# Altium footprint library SWITCH_DIP.PCBLIB: 26 footprints (part 1 of 2)
Each footprint in its own frame and in the unit in brackets; x right, y up, seen from the top. Pads: shape width x height; smd on the part's side, far side on the other; paste and mask are expansions set on the pad; w line width, h text height; cw(c..) or ccw(c..) is an arc to the next point about the centre after c.
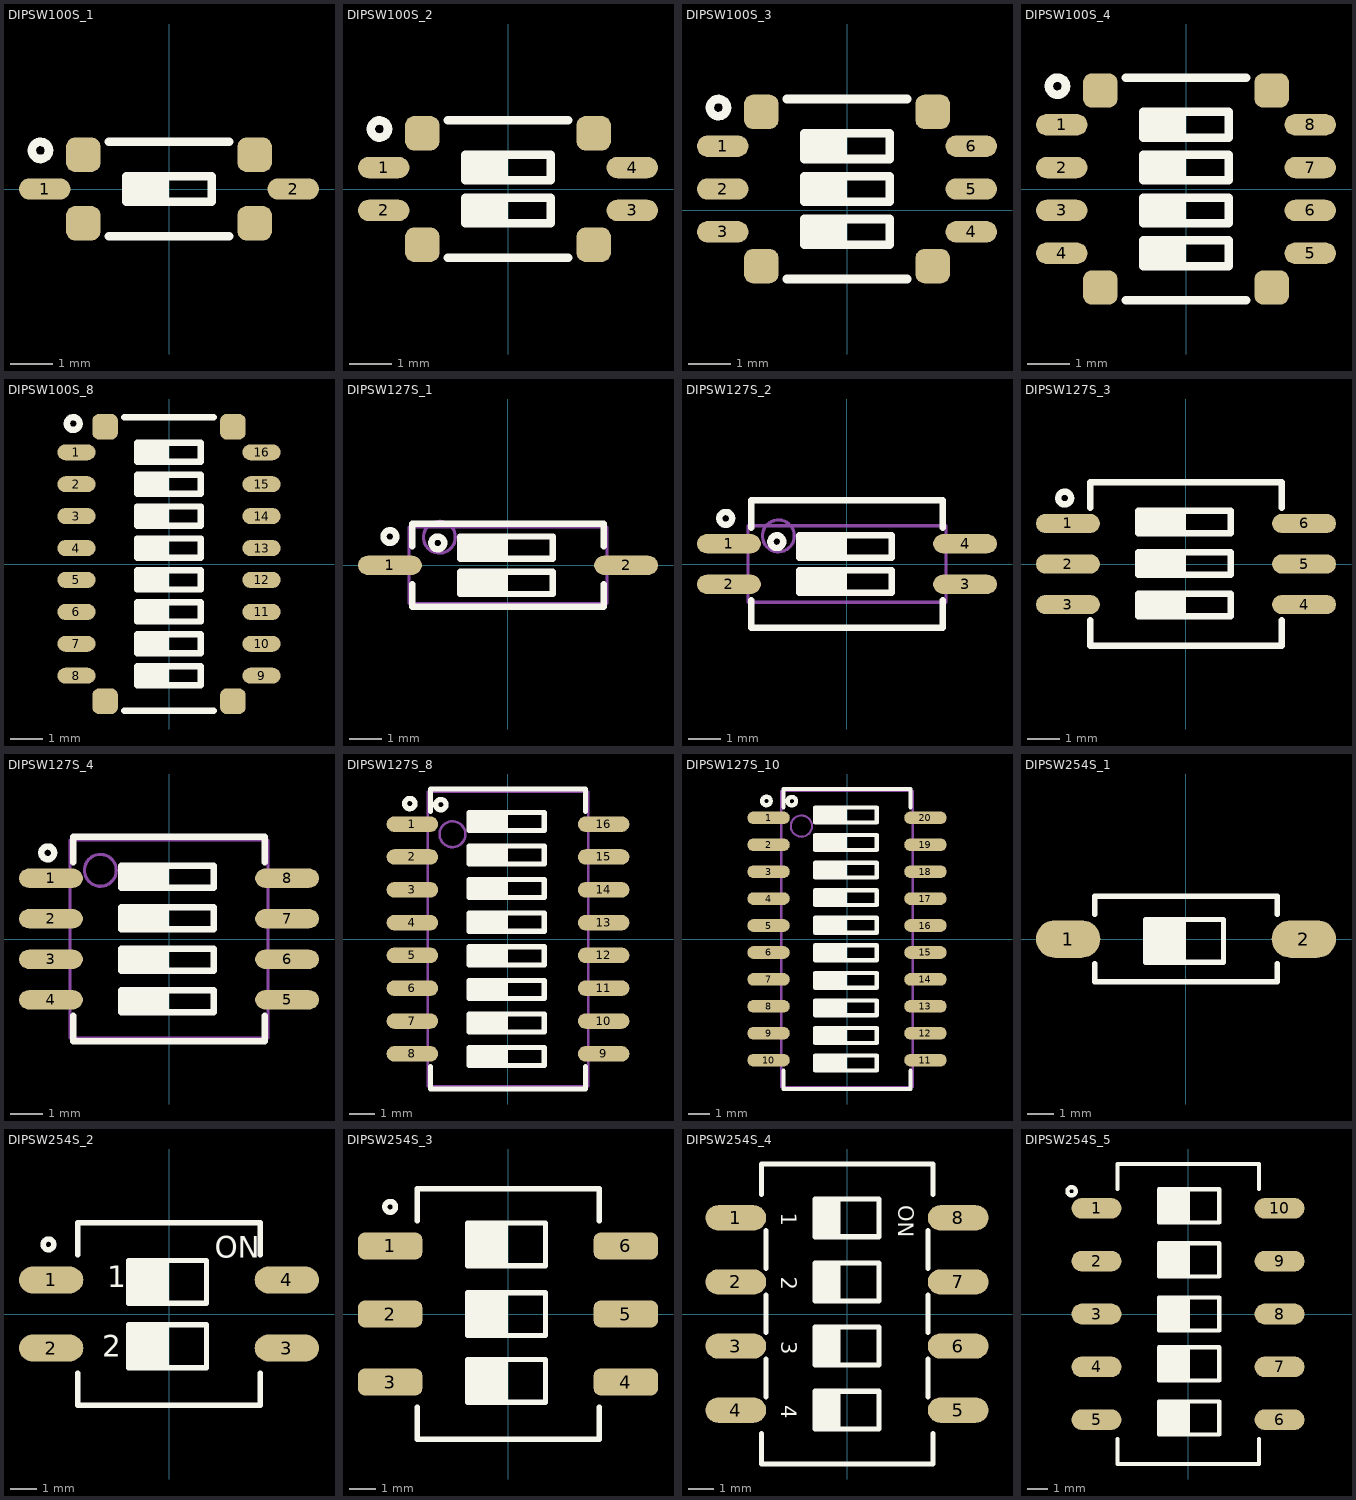
[diagram p0: the footprints below, top view; thin cyan lines are the x and y axes]

## DIPSW100S_1 [mm] "SWITCH DIP 4POS, SMD, 1mm, CVS-01, 4.7X5x1.5mm nidec copal"
height 1.5
pads (6):
  oval 1.2x0.5 smd: 1(-2.9,0) 2(2.9,0)
  rrect50% 0.8x0.8 smd mask+0.075: ""(-2,-0.8) ""(-2,0.8) ""(2,-0.8) ""(2,0.8)
TopOverlay:
  circle w0.2: c-3,0.9 r0.2
  rectangle: -1,-0.3 0,0.3
  lines w0.2: -1.4,-1.1 1.4,-1.1 ; -1.4,1.1 1.4,1.1 ; -1,-0.3 1,-0.3 1,0.3 -1,0.3 -1,-0.3
3D body "CVS-01TB.stp": height 1.47, standoff 0, extent -3.05,-1 3.05,1

## DIPSW100S_2 [mm] "SWITCH DIP 4POS, SMD, 1mm, CVS-02, 4.7X5x1.5mm nidec copal"
height 1.5
pads (8):
  oval 1.2x0.5 smd: 1(-2.9,0.5) 2(-2.9,-0.5) 3(2.9,-0.5) 4(2.9,0.5)
  rrect50% 0.8x0.8 smd mask+0.075: ""(-2,-1.3) ""(-2,1.3) ""(2,-1.3) ""(2,1.3)
TopOverlay:
  circle w0.2: c-3,1.4 r0.2
  rectangle: -1,-0.8 0,-0.2
  rectangle: -1,0.2 0,0.8
  lines w0.2: -1.4,-1.6 1.4,-1.6 ; -1.4,1.6 1.4,1.6 ; -1,-0.8 -1,-0.2 1,-0.2 1,-0.8 -1,-0.8 ; -1,0.2 -1,0.8 1,0.8 1,0.2 -1,0.2
3D body "CVS-02TB.stp": height 1.47, standoff 0, extent -3.05,-1.5 3.05,1.5

## DIPSW100S_3 [mm] "SWITCH DIP 4POS, SMD, 1mm, CVS-03, 4.7X5x1.5mm nidec copal"
height 1.5
pads (10):
  oval 1.2x0.5 smd: 1(-2.9,1.5) 2(-2.9,0.5) 3(-2.9,-0.5) 4(2.9,-0.5) 5(2.9,0.5) 6(2.9,1.5)
  rrect50% 0.8x0.8 smd mask+0.075: ""(-2,-1.3) ""(-2,2.3) ""(2,-1.3) ""(2,2.3)
TopOverlay:
  circle w0.2: c-3,2.4 r0.2
  rectangle: -1,-0.8 0,-0.2
  rectangle: -1,0.2 0,0.8
  rectangle: -1,1.2 0,1.8
  lines w0.2: -1.4,-1.6 1.4,-1.6 ; -1.4,2.6 1.4,2.6 ; -1,-0.8 -1,-0.2 1,-0.2 1,-0.8 -1,-0.8 ; -1,0.2 -1,0.8 1,0.8 1,0.2 -1,0.2 ; -1,1.2 -1,1.8 1,1.8 1,1.2 -1,1.2
3D body "CVS-03TB.stp": height 1.47, standoff 0, extent -3.05,-1.5 3.05,2.5

## DIPSW100S_4 [mm] "SWITCH DIP 4POS, SMD, 1mm, CVS-04, 4.7X5x1.5mm nidec copal"
height 1.5
pads (12):
  oval 1.2x0.5 smd: 1(-2.9,1.5) 2(-2.9,0.5) 3(-2.9,-0.5) 4(-2.9,-1.5) 5(2.9,-1.5) 6(2.9,-0.5) 7(2.9,0.5) 8(2.9,1.5)
  rrect50% 0.8x0.8 smd mask+0.075: ""(-2,-2.3) ""(-2,2.3) ""(2,-2.3) ""(2,2.3)
TopOverlay:
  circle w0.2: c-3,2.4 r0.2
  rectangle: -1,1.2 0,1.8
  rectangle: -1,0.2 0,0.8
  rectangle: -1,-0.8 0,-0.2
  rectangle: -1,-1.8 0,-1.2
  lines w0.2: -1.4,-2.6 1.4,-2.6 ; -1.4,2.6 1.4,2.6 ; -1,-1.8 1,-1.8 1,-1.2 -1,-1.2 -1,-1.8 ; -1,-0.8 1,-0.8 1,-0.2 -1,-0.2 -1,-0.8 ; -1,0.2 1,0.2 1,0.8 -1,0.8 -1,0.2 ; -1,1.2 1,1.2 1,1.8 -1,1.8 -1,1.2
3D body "CVS-04TB.stp": height 1.47, standoff 0, extent -3.05,-2.5 3.05,2.5

## DIPSW100S_8 [mm] "SWITCH DIP 4POS, SMD, 1mm, CVS-08, 4.7X5x1.5mm nidec copal"
height 1.5
pads (20):
  oval 1.2x0.5 smd: 1(-2.9,3.5) 2(-2.9,2.5) 3(-2.9,1.5) 4(-2.9,0.5) 5(-2.9,-0.5) 6(-2.9,-1.5) 7(-2.9,-2.5) 8(-2.9,-3.5) 9(2.9,-3.5) 10(2.9,-2.5) 11(2.9,-1.5) 12(2.9,-0.5) 13(2.9,0.5) 14(2.9,1.5) 15(2.9,2.5) 16(2.9,3.5)
  rrect50% 0.8x0.8 smd mask+0.075: ""(-2,-4.3) ""(-2,4.3) ""(2,-4.3) ""(2,4.3)
TopOverlay:
  circle w0.2: c-3,4.4 r0.2
  rectangle: -1,-3.8 0,-3.2
  rectangle: -1,-2.8 0,-2.2
  rectangle: -1,-1.8 0,-1.2
  rectangle: -1,-0.8 0,-0.2
  rectangle: -1,3.2 0,3.8
  rectangle: -1,2.2 0,2.8
  rectangle: -1,1.2 0,1.8
  rectangle: -1,0.2 0,0.8
  lines w0.2: -1.4,-4.6 1.4,-4.6 ; -1.4,4.6 1.4,4.6 ; -1,-3.8 -1,-3.2 1,-3.2 1,-3.8 -1,-3.8 ; -1,-2.8 1,-2.8 1,-2.2 -1,-2.2 -1,-2.8 ; -1,-1.8 1,-1.8 1,-1.2 -1,-1.2 -1,-1.8 ; -1,-0.8 1,-0.8 1,-0.2 -1,-0.2 -1,-0.8 ; -1,0.2 1,0.2 1,0.8 -1,0.8 -1,0.2 ; -1,1.2 1,1.2 1,1.8 -1,1.8 -1,1.2 ; -1,2.2 1,2.2 1,2.8 -1,2.8 -1,2.2 ; -1,3.2 1,3.2 1,3.8 -1,3.8 -1,3.2
3D body "CVS-08TB.stp": height 1.47, standoff 0, extent -3.05,-4.5 3.05,4.5

## DIPSW127S_1 [mm] "SWITCH DIP 1POS, SMD, 1.27mm, 6.1X2.4mm www.ck-components.com, TDA series"
height 2.3
pads (2):
  oval 2x0.6 smd: 1(-3.7,0) 2(3.7,0)
TopOverlay:
  circle w0.2: c-3.7,0.9 r0.2
  circle w0.2: c-2.2,0.7 r0.2
  rectangle: -1.5,-0.8 0,-0.2
  rectangle: -1.5,0.2 0,0.8
  lines w0.2: -3,-0.6 -3,-1.3 3,-1.3 3,-0.6 ; -3,0.6 -3,1.3 3,1.3 3,0.6 ; -1.5,-0.9 -1.5,-0.2 1.4,-0.2 1.4,-0.9 -1.5,-0.9 ; -1.5,0.2 1.4,0.2 1.4,0.9 -1.5,0.9 -1.5,0.2
Mechanical13:
  circle w0.1: c-2.15,0.88 r0.5
  lines w0.1: -3.1,-1.2 3.1,-1.2 3.1,1.2 -3.1,1.2 -3.1,-1.2
3D body "TDA01H0SB1R.stp": height 2.3, standoff 0, extent -4.06,-1.2 4.06,1.2

## DIPSW127S_2 [mm] "SWITCH DIP 2POS, SMD, 1.27mm, 6.1X2.4mm www.ck-components.com, TDA series"
height 2.3
pads (4):
  oval 2x0.6 smd: 1(-3.7,0.635) 2(-3.7,-0.635) 3(3.7,-0.635) 4(3.7,0.635)
TopOverlay:
  circle w0.2: c-2.2,0.7 r0.2
  circle w0.2: c-3.8,1.43 r0.2
  rectangle: -1.5,0.2 0,0.8
  rectangle: -1.5,-0.8 0,-0.2
  lines w0.2: -3,-1.13 -3,-2 3,-2 3,-1.13 ; -3,1.13 -3,2 3,2 3,1.13 ; -1.5,-0.9 1.4,-0.9 1.4,-0.2 -1.5,-0.2 -1.5,-0.9 ; -1.5,0.2 -1.5,0.9 1.4,0.9 1.4,0.2 -1.5,0.2
Mechanical13:
  circle w0.1: c-2.15,0.88 r0.5
  lines w0.1: -3.1,-1.2 -3.1,1.2 3.1,1.2 3.1,-1.2 -3.1,-1.2
3D body "218-2polesLP.STP": height 2.57, standoff -0.05, extent -4.22,-1.855 4.22,1.855

## DIPSW127S_3 [mm] "SWITCH DIP 3POS, SMD, 1.27mm, 6.1width"
height 2.3
pads (6):
  oval 2x0.6 smd: 1(-3.7,1.27) 2(-3.7,0) 3(-3.7,-1.27) 4(3.7,-1.27) 5(3.7,0) 6(3.7,1.27)
TopOverlay:
  circle w0.2: c-3.8,2.065 r0.2
  rectangle: -1.5,-1.535 0,-0.935
  rectangle: -1.5,-0.235 0,0.365
  rectangle: -1.5,1.065 0,1.665
  lines w0.2: -3,-1.765 -3,-2.565 3,-2.565 3,-1.765 ; -3,1.765 -3,2.565 3,2.565 3,1.765 ; -1.5,-1.635 -1.5,-0.935 1.4,-0.935 1.4,-1.635 -1.5,-1.635 ; -1.5,-0.335 -1.5,0.365 1.4,0.365 1.4,-0.335 -1.5,-0.335 ; -1.5,0.965 -1.5,1.665 1.4,1.665 1.4,0.965 -1.5,0.965
3D body "DSHP03TS-S.step": height 2.57, standoff -0.05, extent -4.22,-2.49 4.22,2.49

## DIPSW127S_4 [mm] "SWITCH DIP 4POS, SMD, 1.27mm, 6.1X6.2mm www.ck-components.com, TDA series"
height 2.3
pads (8):
  oval 2x0.6 smd: 1(-3.7,1.905) 2(-3.7,0.635) 3(-3.7,-0.635) 4(-3.7,-1.905) 5(3.7,-1.905) 6(3.7,-0.635) 7(3.7,0.635) 8(3.7,1.905)
TopOverlay:
  circle w0.2: c-3.8,2.7 r0.2
  rectangle: -1.5,1.7 0,2.3
  rectangle: -1.5,0.4 0,1
  rectangle: -1.5,-0.9 0,-0.3
  rectangle: -1.5,-2.2 0,-1.6
  lines w0.2: -3,-2.4 -3,-3.2 3,-3.2 3,-2.4 ; -3,2.4 -3,3.2 3,3.2 3,2.4 ; -1.5,-2.3 1.4,-2.3 1.4,-1.6 -1.5,-1.6 -1.5,-2.3 ; -1.5,-1 1.4,-1 1.4,-0.3 -1.5,-0.3 -1.5,-1 ; -1.5,0.3 1.4,0.3 1.4,1 -1.5,1 -1.5,0.3 ; -1.5,1.6 1.4,1.6 1.4,2.3 -1.5,2.3 -1.5,1.6
Mechanical13:
  circle w0.1: c-2.15,2.15 r0.5
  lines w0.1: -3.1,-3.1 3.1,-3.1 3.1,3.1 -3.1,3.1 -3.1,-3.1
3D body "218-4polesLP.STP": height 2.57, standoff -0.05, extent -4.22,-3.125 4.22,3.125

## DIPSW127S_8 [mm] "SWITCH DIP 8POS, SMD, 1.27mm, 6.1X11.3mm www.ck-components.com, TDA series"
height 2.3
pads (16):
  oval 2x0.6 smd: 1(-3.7,4.445) 2(-3.7,3.175) 3(-3.7,1.905) 4(-3.7,0.635) 5(-3.7,-0.635) 6(-3.7,-1.905) 7(-3.7,-3.175) 8(-3.7,-4.445) 9(3.7,-4.445) 10(3.7,-3.175) 11(3.7,-1.905) 12(3.7,-0.635) 13(3.7,0.635) 14(3.7,1.905) 15(3.7,3.175) 16(3.7,4.445)
TopOverlay:
  circle w0.2: c-3.8,5.24 r0.2
  circle w0.2: c-2.6,5.2 r0.2
  rectangle: -1.5,-4.8 0,-4.2
  rectangle: -1.5,-3.5 0,-2.9
  rectangle: -1.5,-2.2 0,-1.6
  rectangle: -1.5,-0.9 0,-0.3
  rectangle: -1.5,0.4 0,1
  rectangle: -1.5,1.7 0,2.3
  rectangle: -1.5,3 0,3.6
  rectangle: -1.5,4.3 0,4.9
  lines w0.2: -3,-4.94 -3,-5.805 3,-5.805 3,-4.94 ; -3,4.94 -3,5.805 3,5.805 3,4.94 ; -1.5,-4.9 -1.5,-4.2 1.4,-4.2 1.4,-4.9 -1.5,-4.9 ; -1.5,-3.6 -1.5,-2.9 1.4,-2.9 1.4,-3.6 -1.5,-3.6 ; -1.5,-2.3 -1.5,-1.6 1.4,-1.6 1.4,-2.3 -1.5,-2.3 ; -1.5,-1 -1.5,-0.3 1.4,-0.3 1.4,-1 -1.5,-1 ; -1.5,0.3 -1.5,1 1.4,1 1.4,0.3 -1.5,0.3 ; -1.5,1.6 -1.5,2.3 1.4,2.3 1.4,1.6 -1.5,1.6 ; -1.5,2.9 -1.5,3.6 1.4,3.6 1.4,2.9 -1.5,2.9 ; -1.5,4.2 -1.5,4.9 1.4,4.9 1.4,4.2 -1.5,4.2
Mechanical13:
  circle w0.1: c-2.15,4.055 r0.5
  lines w0.1: -3.1,-5.705 -3.1,5.705 3.1,5.705 3.1,-5.705 -3.1,-5.705
3D body "218-8polesLP.STP": height 2.57, standoff -0.05, extent -4.22,-5.665 4.22,5.665

## DIPSW127S_10 [mm] "SWITCH DIP 10POS, SMD, 1.27mm, 6.1X13.8mm"
height 2.3
pads (20):
  oval 2x0.6 smd: 1(-3.7,5.715) 2(-3.7,4.445) 3(-3.7,3.175) 4(-3.7,1.905) 5(-3.7,0.635) 6(-3.7,-0.635) 7(-3.7,-1.905) 8(-3.7,-3.175) 9(-3.7,-4.445) 10(-3.7,-5.715) 11(3.7,-5.715) 12(3.7,-4.445) 13(3.7,-3.175) 14(3.7,-1.905) 15(3.7,-0.635) 16(3.7,0.635) 17(3.7,1.905) 18(3.7,3.175) 19(3.7,4.445) 20(3.7,5.715)
TopOverlay:
  circle w0.2: c-3.8,6.51 r0.2
  circle w0.2: c-2.6,6.5 r0.2
  rectangle: -1.5,5.6 0,6.2
  rectangle: -1.5,4.3 0,4.9
  rectangle: -1.5,3 0,3.6
  rectangle: -1.5,1.7 0,2.3
  rectangle: -1.5,0.4 0,1
  rectangle: -1.5,-0.9 0,-0.3
  rectangle: -1.5,-2.2 0,-1.6
  rectangle: -1.5,-3.5 0,-2.9
  rectangle: -1.5,-4.8 0,-4.2
  rectangle: -1.5,-6.1 0,-5.5
  lines w0.2: -3,-6.21 -3,-7.075 3,-7.075 3,-6.21 ; -3,6.21 -3,7.075 3,7.075 3,6.21 ; -1.5,-6.2 1.4,-6.2 1.4,-5.5 -1.5,-5.5 -1.5,-6.2 ; -1.5,-4.9 1.4,-4.9 1.4,-4.2 -1.5,-4.2 -1.5,-4.9 ; -1.5,-3.6 1.4,-3.6 1.4,-2.9 -1.5,-2.9 -1.5,-3.6 ; -1.5,-2.3 1.4,-2.3 1.4,-1.6 -1.5,-1.6 -1.5,-2.3 ; -1.5,-1 1.4,-1 1.4,-0.3 -1.5,-0.3 -1.5,-1 ; -1.5,0.3 1.4,0.3 1.4,1 -1.5,1 -1.5,0.3 ; -1.5,1.6 1.4,1.6 1.4,2.3 -1.5,2.3 -1.5,1.6 ; -1.5,2.9 1.4,2.9 1.4,3.6 -1.5,3.6 -1.5,2.9 ; -1.5,4.2 1.4,4.2 1.4,4.9 -1.5,4.9 -1.5,4.2 ; -1.5,5.5 1.4,5.5 1.4,6.2 -1.5,6.2 -1.5,5.5
Mechanical13:
  circle w0.1: c-2.15,5.325 r0.5
  lines w0.1: -3.1,-6.975 3.1,-6.975 3.1,6.975 -3.1,6.975 -3.1,-6.975
3D body "218-10polesLP.STP": height 2.57, standoff -0.05, extent -4.22,-6.935 4.22,6.935

## DIPSW254S_1 [mm] "SWITCH DIP 1POS, THD, 2.54mm"
height 6.5
pads (2):
  oval 2.4x1.4 smd: 1(-4.4,0) 2(4.4,0)
TopOverlay:
  rectangle: -1.5,-0.87 0,0.73
  lines w0.2: -3.4,-0.93 -3.4,-1.6 3.4,-1.6 3.4,-0.93 ; -3.4,0.93 -3.4,1.6 3.4,1.6 3.4,0.93 ; -1.5,-0.87 1.4,-0.87 1.4,0.73 -1.5,0.73 -1.5,-0.87
3D body "418121160801.stp": height 3.35, standoff 0.05, extent -4.95,-1.49 4.95,1.49

## DIPSW254S_2 [mm] "SWITCH DIP 2POS, THD, 2.54mm, SD02"
height 6.5
pads (4):
  oval 2.4x1 smd: 1(-4.4,1.27) 2(-4.4,-1.27) 3(4.4,-1.27) 4(4.4,1.27)
TopOverlay:
  circle w0.2: c-4.5,2.6 r0.2
  rectangle: -1.5,0.4 0,2
  rectangle: -1.5,-2 0,-0.4
  lines w0.2: -3.4,-2.2 -3.4,-3.4 3.4,-3.4 3.4,-2.2 ; -3.4,2.2 -3.4,3.4 3.4,3.4 3.4,2.2 ; -1.5,-2 1.4,-2 1.4,-0.4 -1.5,-0.4 -1.5,-2 ; -1.5,0.4 1.4,0.4 1.4,2 -1.5,2 -1.5,0.4
  text "2" at -2.5,-1.6 h0.8
  text "1" at -2.3,1 h0.8
  text "ON" at 1.7,2.1 h0.8
3D body "User Library-DIP SW 2P.step": height 4.15, standoff 0, extent -4.95,-3.275 4.95,3.275

## DIPSW254S_3 [mm] "SWITCH DIP 3POS, THD, 2.54mm, SD03"
pads (6):
  rrect50% 2.4x1 smd: 1(-4.4,2.54) 2(-4.4,0) 3(-4.4,-2.54) 4(4.4,-2.54) 5(4.4,0) 6(4.4,2.54)
TopOverlay:
  circle w0.2: c-4.4,4 r0.2
  rectangle: -1.5,-3.3 0,-1.7
  rectangle: -1.5,-0.8 0,0.8
  rectangle: -1.5,1.8 0,3.4
  lines w0.2: -3.39,-3.47 -3.39,-4.67 3.41,-4.67 3.41,-3.47 ; -3.39,3.47 -3.39,4.67 3.41,4.67 3.41,3.47 ; -1.5,-3.3 -1.5,-1.7 1.4,-1.7 1.4,-3.3 -1.5,-3.3 ; -1.5,-0.8 -1.5,0.8 1.4,0.8 1.4,-0.8 -1.5,-0.8 ; -1.5,1.8 -1.5,3.4 1.4,3.4 1.4,1.8 -1.5,1.8
3D body "User Library-DIP SW 3P.step": height 4.15, standoff 0, extent -4.95,-4.545 4.95,4.545

## DIPSW254S_4 [mm] "SWITCH DIP 4POS, SMD, 2.54mm, CTS-219-04"
pads (8):
  oval 2.4x1 smd: 1(-4.4,3.81) 2(-4.4,1.27) 3(-4.4,-1.27) 4(-4.4,-3.81) 5(4.4,-3.81) 6(4.4,-1.27) 7(4.4,1.27) 8(4.4,3.81)
TopOverlay:
  region: -1.27,4.56 -1.27,3.06 -0.254,3.06 -0.254,4.56
  region: -1.27,2.02 -1.27,0.52 -0.254,0.52 -0.254,2.02
  region: -1.27,-0.52 -1.27,-2.02 -0.254,-2.02 -0.254,-0.52
  region: -1.27,-3.06 -1.27,-4.56 -0.254,-4.56 -0.254,-3.06
  lines w0.2: -3.39,-4.74 -3.39,-5.94 3.41,-5.94 3.41,-4.74 ; -3.39,4.74 -3.39,5.94 3.41,5.94 3.41,4.74 ; -3.2,-3.28 -3.2,-1.78 ; -3.2,-0.74 -3.2,0.76 ; -3.2,1.8 -3.2,3.3 ; 3.2,-3.28 3.2,-1.78 ; 3.2,-0.74 3.2,0.76 ; 3.2,1.8 3.2,3.3 ; -1.27,-4.56 -1.27,-3.06 1.27,-3.06 1.27,-4.56 -1.27,-4.56 ; -1.27,-2.02 -1.27,-0.52 1.27,-0.52 1.27,-2.02 -1.27,-2.02 ; -1.27,0.52 -1.27,2.02 1.27,2.02 1.27,0.52 -1.27,0.52 ; -1.27,3.06 -1.27,4.56 1.27,4.56 1.27,3.06 -1.27,3.06
  text "ON" at 2.021,4.31 h0.61
  text "1" at -2.596,4.01 h0.61
  text "2" at -2.596,1.47 h0.61
  text "3" at -2.596,-1.07 h0.61
  text "4" at -2.596,-3.61 h0.61
3D body "User Library-DIP SW 4P.step": height 4.15, standoff 0, extent -4.95,-5.815 4.95,5.815

## DIPSW254S_5 [mm] "SWITCH DIP 5POS, THD, 2.54mm,"
pads (10):
  oval 2.4x1 smd: 1(-4.4,5.08) 2(-4.4,2.54) 3(-4.4,0) 4(-4.4,-2.54) 5(-4.4,-5.08) 6(4.4,-5.08) 7(4.4,-2.54) 8(4.4,0) 9(4.4,2.54) 10(4.4,5.08)
TopOverlay:
  circle w0.2: c-5.6,5.9 r0.2
  rectangle: -1.4,-5.8 0.1,-4.2
  rectangle: -1.4,-3.2 0.1,-1.6
  rectangle: -1.4,-0.8 0.1,0.8
  rectangle: -1.4,1.8 0.1,3.4
  rectangle: -1.4,4.4 0.1,6
  lines w0.2: -3.39,-6.01 -3.39,-7.21 3.41,-7.21 3.41,-6.01 ; -3.39,6.01 -3.39,7.21 3.41,7.21 3.41,6.01 ; -1.4,-5.8 1.5,-5.8 1.5,-4.2 -1.4,-4.2 -1.4,-5.8 ; -1.4,-3.2 1.5,-3.2 1.5,-1.6 -1.4,-1.6 -1.4,-3.2 ; -1.4,-0.8 1.5,-0.8 1.5,0.8 -1.4,0.8 -1.4,-0.8 ; -1.4,1.8 1.5,1.8 1.5,3.4 -1.4,3.4 -1.4,1.8 ; -1.4,4.4 1.5,4.4 1.5,6 -1.4,6 -1.4,4.4
3D body "User Library-DIP SW 5P.step": height 4.15, standoff 0, extent -4.95,-7.085 4.95,7.085